# Altium schematic symbol library Sensor.SchLib: 1 symbol
Pins are listed as number, name and electrical type; pins without a type are passive.

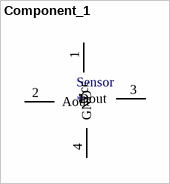
[diagram p0: symbol Component_1]

## Component_1
designator Sensor
footprint Sensor
pins: 1 Vcc, 2 Aout, 3 Dout, 4 GND